# Altium integrated library BC817-16.IntLib: 1 symbol
Pins are listed as number, name and electrical type; pins without a type are passive.

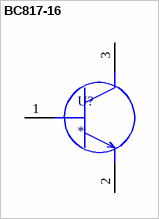
[diagram p0: symbol BC817-16]

## BC817-16
designator U?
Bipolar (BJT) Transistor NPN 45 V 500 mA 100MHz 310 mW Surface Mount SOT-23-3; MP: BC817-16; MF: Diodes; Availability: In Stock; SnapEDA_Link: https://www.snapeda.com/parts/BC817-16/Diodes+Inc./view-part/?ref=snap; Value: *; Check_prices: https://www.snapeda.com/parts/BC817-16/Diodes+Inc./view-part/?ref=eda; Purchase-URL: https://pricing.snapeda.com/search/part/BC817-16/?ref=eda; Price: None; Package: SOT-23 Vishay Semiconductor
footprint SOT91P240X110-3N
pins: 1 B, 2 E, 3 C